# Altium schematic symbol library Capacitor Pol.Schlib: 1 symbol
Pins are listed as number, name and electrical type; pins without a type are passive.

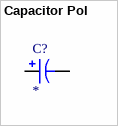
[diagram p0: symbol Capacitor Pol]

## Capacitor Pol
designator C?
pins: 1, 2
1 alternate drawing of the same symbol